# Altium footprint library SOP8.PcbLib: 1 footprints
Each footprint in its own frame and in the unit in brackets; x right, y up, seen from the top. Pads: shape width x height; smd on the part's side, far side on the other; paste and mask are expansions set on the pad; w line width, h text height; cw(c..) or ccw(c..) is an arc to the next point about the centre after c.
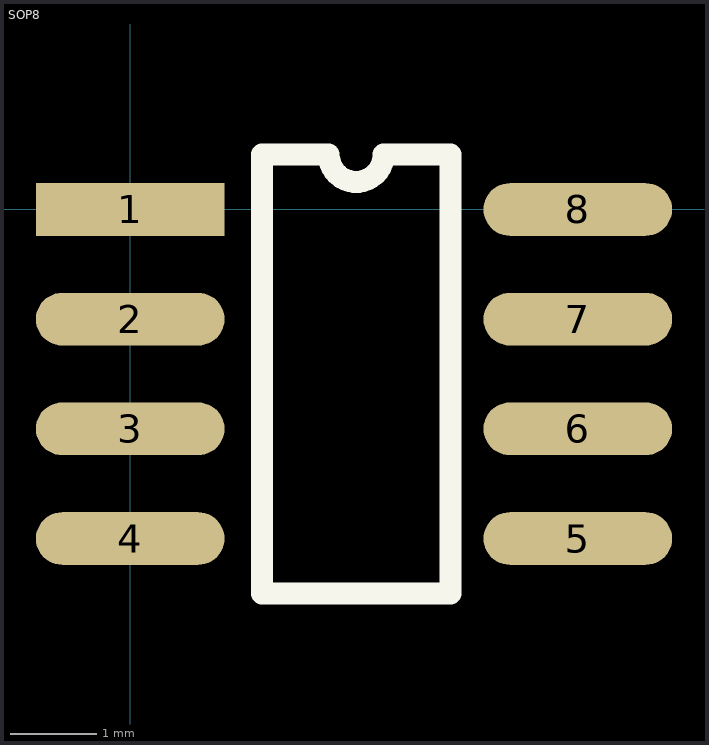
[diagram p0: the footprint, top view; thin cyan lines are the x and y axes]

## SOP8 [mil]
pads (8):
  rect 86x24 smd: 1(0,0)
  oval 86x24 smd: 2(0,-50) 3(0,-100) 4(0,-150) 5(204,-150) 6(204,-100) 7(204,-50) 8(204,0)
TopOverlay:
  lines w10: 60,25 60,-175 146,-175 146,25 126,25 115.5,25 cw(c103,25) 90.5,25 81,25 60.5,25
Mechanical4:
  text ".040" at 0,0 h1